# Altium footprint library misc.PCBLIB: 49 footprints (part 3 of 4)
Each footprint in its own frame and in the unit in brackets; x right, y up, seen from the top. Pads: shape width x height; smd on the part's side, far side on the other; paste and mask are expansions set on the pad; w line width, h text height; cw(c..) or ccw(c..) is an arc to the next point about the centre after c.
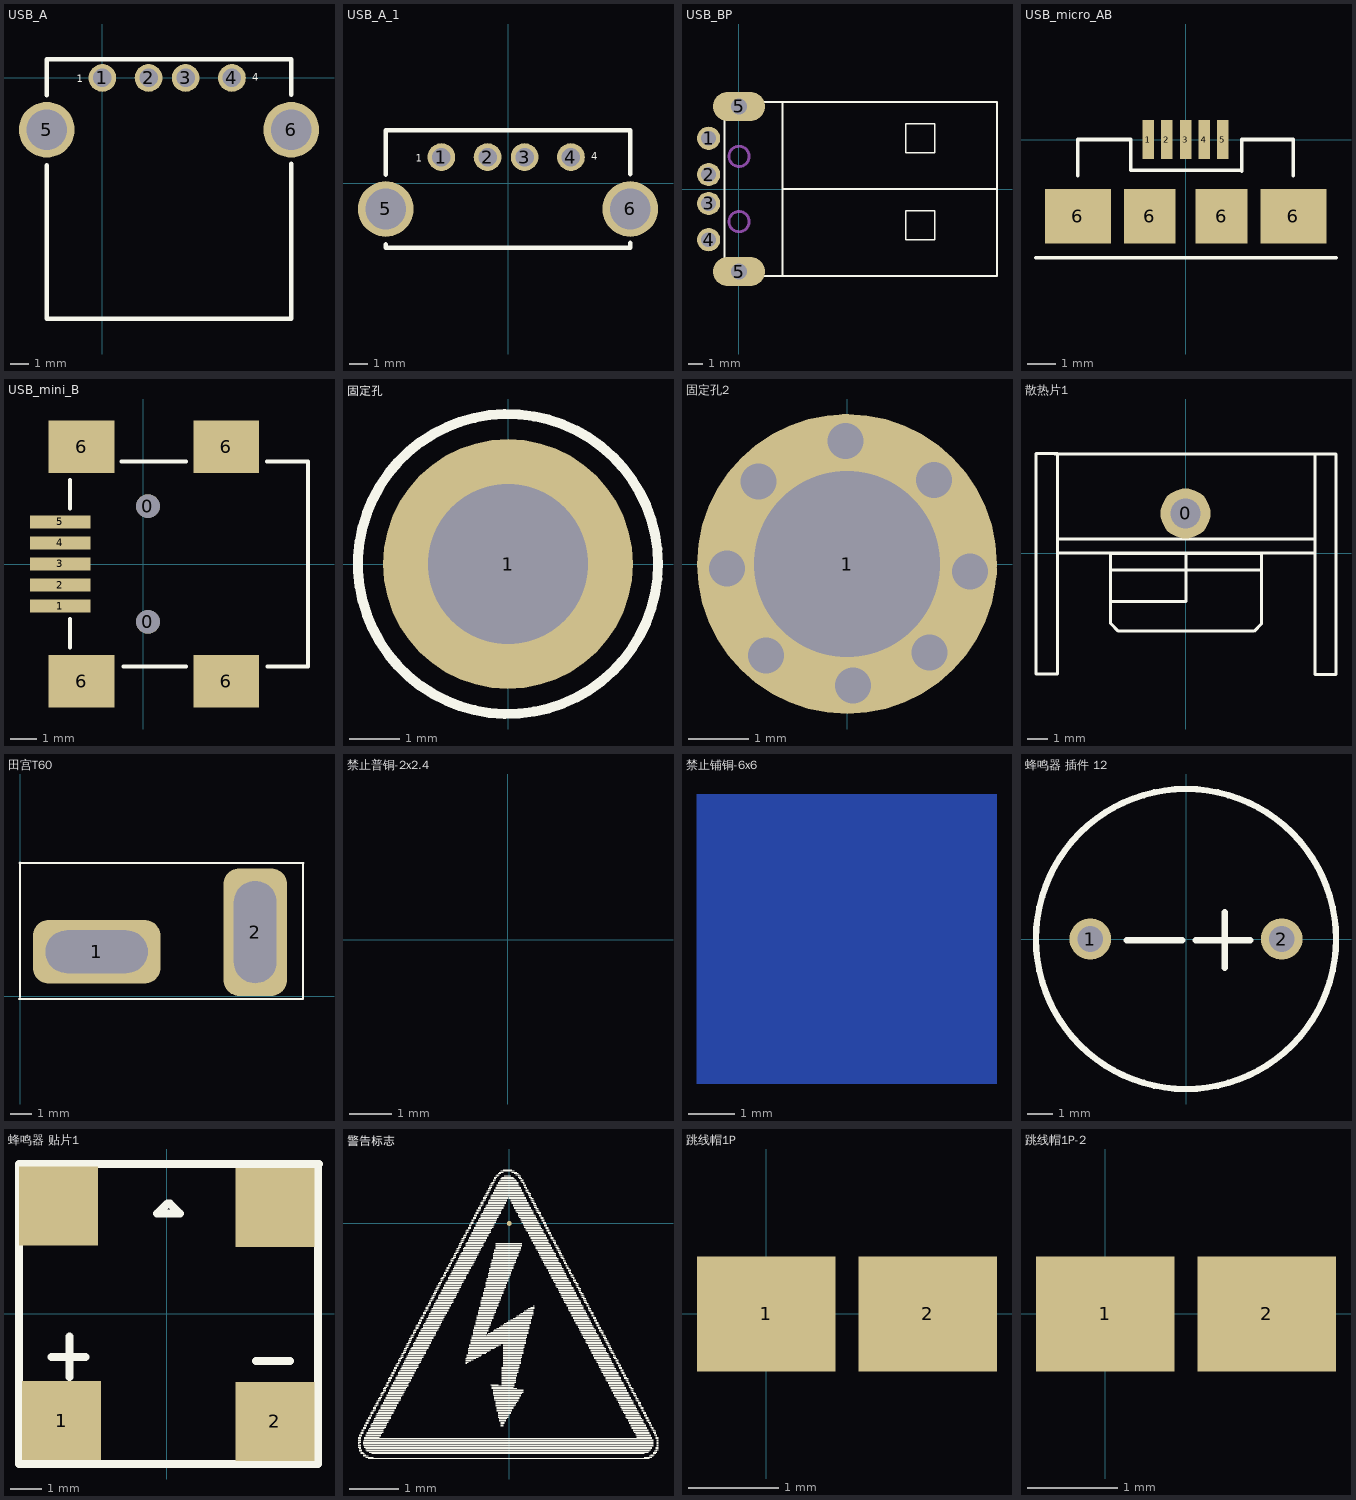
[diagram p2: the footprints below, top view; thin cyan lines are the x and y axes]

## USB_A [mm] "USB座"
pads (6):
  round 1.5 hole 1: 1(0,0) 2(2.5,0) 3(4.5,0) 4(7,0)
  round 3 hole 2.2: 5(-3,-2.8) 6(10.2,-2.8)
TopOverlay:
  lines w0.254: -3,-4.718 -3,-13 10.2,-13 ; -3,-0.934 -3,1 10.2,1 ; 10.208,-13 10.208,-4.642 ; 10.208,-0.908 10.208,1
  text "4" at 8.107,-0.153 h0.4
  text "1" at -1.393,-0.243 h0.4

## USB_A_1 [mm] "USB座"
pads (6):
  round 1.5 hole 1: 1(-3.6,1.4) 2(-1.1,1.4) 3(0.9,1.4) 4(3.4,1.4)
  round 3 hole 2.2: 5(-6.6,-1.4) 6(6.6,-1.4)
TopOverlay:
  lines w0.254: -6.6,-3.318 -6.6,-3.496 6.608,-3.496 6.608,-3.242 ; -6.6,0.466 -6.6,2.854 6.608,2.854 6.608,0.492
  text "1" at -4.993,1.157 h0.4
  text "4" at 4.507,1.247 h0.4

## USB_BP [mm] "USB座"
pads (6):
  round 1.6 hole 1.016: 1(-2.075,3.525) 2(-2.075,1.025) 3(-2.075,-0.975) 4(-2.075,-3.475)
  oval 3.6x2 hole 1.1: 5(0.025,-5.675) 5(0.025,5.725)
TopOverlay:
  lines w0.127: 3.025,-5.975 3.025,6.025 ; 3.025,0.025 17.825,0.025 ; -0.975,-5.975 -0.975,6.025 17.825,6.025 17.825,-5.975 -0.975,-5.975 ; 11.525,-3.475 11.525,-1.475 13.525,-1.475 13.525,-3.475 11.525,-3.475 ; 11.525,2.525 11.525,4.525 13.525,4.525 13.525,2.525 11.525,2.525
Mechanical1:
  circle w0.2: c0.025,-2.225 r0.7
  circle w0.2: c0.025,2.275 r0.7
  lines w0.127: -1.225,-6.175 1.275,-6.175 1.275,-5.175 -1.225,-5.175 -1.225,-6.175 ; -1.225,5.225 1.275,5.225 1.275,6.225 -1.225,6.225 -1.225,5.225

## USB_micro_AB [mm] "USB座"
pads (9):
  rect 0.4x1.35 smd: 1(-1.3,0) 2(-0.65,0) 3(0,0) 4(0.65,0) 5(1.3,0)
  rect 2.3x1.9 smd: 6(-3.75,-2.675) 6(3.75,-2.675)
  rect 1.8x1.9 smd: 6(-1.25,-2.675) 6(1.25,-2.675)
TopOverlay:
  lines w0.127: -5.207,-4.115 5.232,-4.115 ; -3.75,-1.253 -3.75,0 -1.905,0 -1.905,-1.067 1.93,-1.067 1.956,-1.092 1.956,0 3.75,0 3.75,-1.253

## USB_mini_B [mm] "USB座"
pads (11):
  round 0.9 hole 0.9: 0(0.175,2.2) 0(0.175,-2.2)
  rect 2.3x0.5 smd: 1(-3.15,-1.6) 2(-3.15,-0.8) 3(-3.15,0) 4(-3.15,0.8) 5(-3.15,1.6)
  rect 2.5x2 smd: 6(-2.35,-4.45) 6(-2.35,4.45) 6(3.15,-4.45) 6(3.15,4.45)
TopOverlay:
  lines w0.152: -2.794,-3.175 -2.794,-2.083 ; -2.794,2.108 -2.794,3.2 ; -0.838,3.9 1.626,3.9 ; -0.762,-3.9 1.626,-3.9 ; 4.699,3.9 6.25,3.9 6.25,-3.9 4.724,-3.9

## 固定孔 [mm] "固定孔"
pads (1):
  round 5 hole 3.2: 1(0,0)
TopOverlay:
  circle w0.2: c0,0 r3

## 固定孔2 [mm] "固定孔"
pads (1):
  round 5 hole 3.1: 1(0,0)
via -0.025,2.05 diameter 0.9 hole 0.6
via 1.45,1.4 diameter 0.9 hole 0.6
via 2.05,-0.125 diameter 0.9 hole 0.6
via 1.375,-1.475 diameter 0.9 hole 0.6
via 0.1,-2.025 diameter 0.9 hole 0.6
via -2,-0.075 diameter 0.9 hole 0.6
via -1.475,1.375 diameter 0.9 hole 0.6
via -1.35,-1.525 diameter 0.9 hole 0.6

## 散热片1 [mm] "220，3?"
pads (1):
  round 2.5 hole 1.5: 0(0,2)
TopOverlay:
  lines w0.15: -6.55,4.975 6.475,4.975 ; -6.375,0.025 6.375,0.025 ; -6.375,0.725 6.375,0.725 ; -3.74,-0.406 -3.74,-0.01 3.79,-0.01 3.79,-3.528 3.434,-3.884 -3.359,-3.884 -3.74,-3.503 -3.74,-0.013 ; -3.714,-0.813 3.761,-0.813 ; -3.675,-2.4 0.025,-2.4 0.025,0.025 ; 6.475,4.975 6.475,-6.05 7.525,-6.05 7.525,4.975 6.475,4.975 ; -7.475,-6.025 -6.4,-6.025 -6.4,5 -7.475,5 -7.475,-6.025

## 田宫T60 [mm]
height 20
pads (2):
  rrect50% 6x3 hole 2 slot 4.8 at 0 deg: 1(3.6,2.1)
  rrect50% 3x6 hole 2 slot 4.8 at 90 deg: 2(11.05,3.025)
TopOverlay:
  lines w0.1: -0.05,-0.125 13.3,-0.125 ; -0.025,6.275 13.325,6.275 ; 0,-0.025 0,6.3 ; 13.3,-0.1 13.3,6.225

## 禁止普铜-2x2.4 [mm]
MultiLayer:
  pour cut-out: 1.925,1.025 2.125,1.15 2.375,1.225 2.625,1.225 2.975,1.15 3.175,1.025 3.325,0.85 3.45,0.675 3.525,0.475 3.55,0.325 3.575,0.15 3.576,-0.192 3.525,-0.525 3.4,-0.8 3.175,-1.025 2.85,-1.2 2.575,-1.225 2.325,-1.2 1.95,-1.075 1.675,-0.775 1.55,-0.525 1.5,-0.025 1.525,0.425 1.7,0.8
  pour cut-out: -0.6,1.05 -0.4,1.175 -0.15,1.25 0.1,1.25 0.45,1.175 0.65,1.05 0.8,0.875 0.925,0.7 1,0.5 1.025,0.35 1.05,0.175 1.051,-0.167 1,-0.5 0.875,-0.775 0.65,-1 0.325,-1.175 0.05,-1.2 -0.2,-1.175 -0.575,-1.05 -0.85,-0.75 -0.975,-0.5 -1.025,0 -1,0.45 -0.825,0.825
  pour cut-out: -3.15,1.025 -2.95,1.15 -2.7,1.225 -2.45,1.225 -2.1,1.15 -1.9,1.025 -1.75,0.85 -1.625,0.675 -1.55,0.475 -1.525,0.325 -1.5,0.15 -1.499,-0.192 -1.55,-0.525 -1.675,-0.8 -1.9,-1.025 -2.225,-1.2 -2.5,-1.225 -2.75,-1.2 -3.125,-1.075 -3.4,-0.775 -3.525,-0.525 -3.575,-0.025 -3.55,0.425 -3.375,0.8

## 禁止铺铜-6x6 [mm]
BottomLayer:
  pour cut-out: 1259.95,1272.15 1266.35,1272.15 1266.35,1265.975 1259.95,1265.975

## 蜂鸣器 插件 12 [mil]
height 787.4
pads (2):
  round 65 hole 40: 1(-150,0) 2(150,0)
TopOverlay:
  circle w10: c0,0 r235
  lines w10: -92.91,-1.97 -5.91,-1.97 ; 15.51,-1.97 36.76,-1.97 79.26,-1.97 100.51,-1.97 ; 60.51,-44.97 60.51,42.03

## 蜂鸣器 贴片1 [mm]
height 0.55
pads (4):
  rect 2.5x2.5 smd: 1(-3.325,-3.387) 2(3.425,-3.413) " "(-3.425,3.413) " "(3.425,3.363)
TopOverlay:
  lines w0.254: -3.645,-1.379 -2.57,-1.379 ; -3.082,-2.007 -3.082,-0.731 ; 0.025,3.488 -0.3,3.163 0.425,3.163 0.1,3.488 ; 2.832,-1.506 3.907,-1.506 ; 4.8,4.738 4.8,-4.763 -4.675,-4.763 -4.675,4.738 4.825,4.738
3D body: height 4, standoff 0, extent -4.575,-4.65 4.7,4.6

## 警告标志 [mm] "标识"
pads (1):
  round 0.1 smd: 1(0,0)
TopOverlay:
  drawing of 1065 lines, arcs and shapes, not listed

## 跳线帽1P [mil]
pads (2):
  rect 60x50 smd: 1(0,0) 2(70,0)

## 跳线帽1P-2 [mil]
pads (2):
  rect 60x50 smd: 1(0,0) 2(70,0)